# EAGLE library part FT231X (library Oles komponentbibliotek)
USB to full handshake UART IC
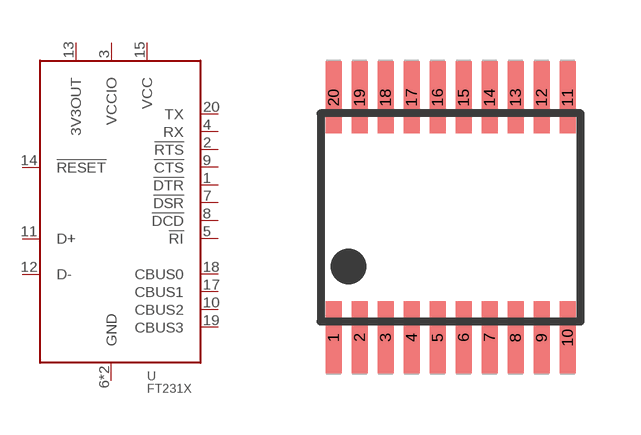
[diagram p25: symbol with the pads of SSOP20; footprint SSOP20]

Designator prefix -

## FT231X  [SSOP20]
1  !DTR  out
2  !RTS  out
3  VCCIO  pwr
4  RX  in
5  !RI  in
6  GND  pwr
7  !DSR  in
8  !DCD  in
9  !CTS  in
10  CBUS2
11  D+
12  D-
13  3V3OUT  pwr
14  !RESET  in
15  VCC  pwr
16  GND  pwr
17  CBUS1
18  CBUS0
19  CBUS3
20  TX  out

## Footprint SSOP20 (pad centres in mm)
smd 0.4 x 1.8: 1 -2.925,-3; 2 -2.275,-3; 3 -1.625,-3; 4 -0.975,-3; 5 -0.325,-3; 6 0.325,-3; 7 0.975,-3; 8 1.625,-3; 9 2.275,-3; 10 2.925,-3; 11 2.925,3; 12 2.275,3; 13 1.625,3; 14 0.975,3; 15 0.325,3; 16 -0.325,3; 17 -0.975,3; 18 -1.625,3; 19 -2.275,3; 20 -2.925,3